# Altium schematic symbol library Vishay.SchLib: 1 symbol
Pins are listed as number, name and electrical type; pins without a type are passive.

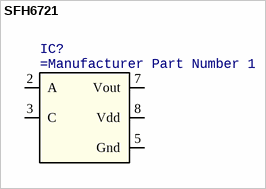
[diagram p0: symbol SFH6721]

## SFH6721
designator IC?
Photocoupler, Schmitt Trigger Output
footprint SOIC127P590X175-8N (SOIC, 8-Leads, Body 4.90x3.90mm, Pitch 1.27mm, IPC Medium Density)
pins: 2 A, 3 C, 5 Gnd (power), 7 Vout, 8 Vdd (power)